# EAGLE library part DF1BZ-6DP-25DSA (library DF1BZ-6DP-2.5DSA)
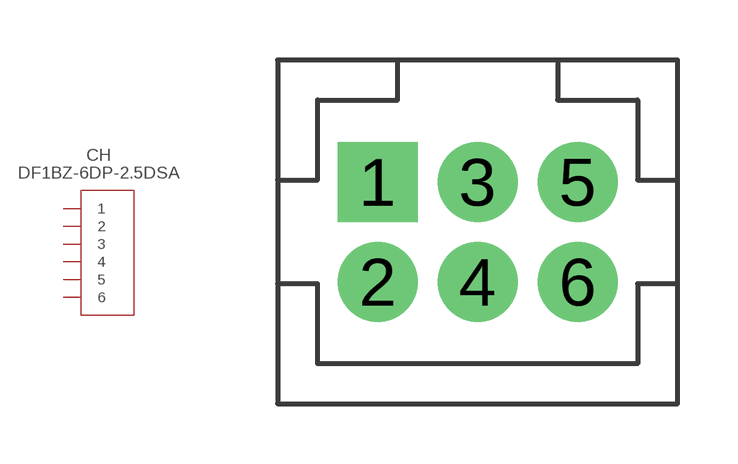
[diagram p0: symbol with the pads of DF1BZ-6DP-25DSA; footprint DF1BZ-6DP-25DSA]

Designator prefix CH

## DF1BZ-6DP-25DSA  [DF1BZ-6DP-25DSA]
1  1
2  2
3  3
4  4
5  5
6  6

## Footprint DF1BZ-6DP-25DSA (pad centres in mm)
drill 1.1 pad 2 square: 1 -2.5,1.25
drill 1.1 pad 2: 2 -2.5,-1.25; 3 0,1.25; 4 0,-1.25; 5 2.5,1.25; 6 2.5,-1.25